# Altium schematic symbol library FT4232H-56Q.SchLib: 1 symbol
Pins are listed as number, name and electrical type; pins without a type are passive.

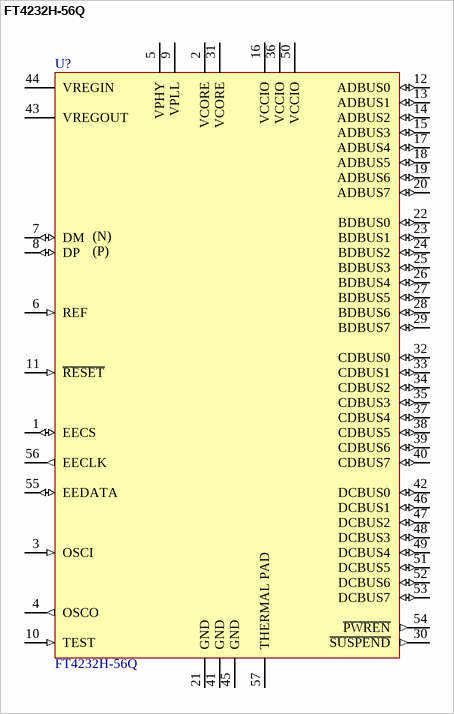
[diagram p0: symbol FT4232H-56Q]

## FT4232H-56Q
designator U?
pins: 1 EECS (io), 2 VCORE (power), 3 OSCI (in), 4 OSCO (out), 5 VPHY (power), 6 REF (in), 7 DM (io), 8 DP (io), 9 VPLL (power), 10 TEST (in), 11 ~{RESET} (in), 12 ADBUS0 (io), 13 ADBUS1 (io), 14 ADBUS2 (io), 15 ADBUS3 (io), 16 VCCIO (power), 17 ADBUS4 (io), 18 ADBUS5 (io), 19 ADBUS6 (io), 20 ADBUS7 (io), 21 GND (power), 22 BDBUS0 (io), 23 BDBUS1 (io), 24 BDBUS2 (io), 25 BDBUS3 (io), 26 BDBUS4 (io), 27 BDBUS5 (io), 28 BDBUS6 (io), 29 BDBUS7 (io), 30 ~{SUSPEND} (out), 31 VCORE (power), 32 CDBUS0 (io), 33 CDBUS1 (io), 34 CDBUS2 (io), 35 CDBUS3 (io), 36 VCCIO (power), 37 CDBUS4 (io), 38 CDBUS5 (io), 39 CDBUS6 (io), 40 CDBUS7 (io), 41 GND (power), 42 DCBUS0 (io), 43 VREGOUT (power), 44 VREGIN (power), 45 GND (power), 46 DCBUS1 (io), 47 DCBUS2 (io), 48 DCBUS3 (io), 49 DCBUS4 (io), 50 VCCIO (power), 51 DCBUS5 (io), 52 DCBUS6 (io), 53 DCBUS7 (io), 54 ~{PWREN} (out), 55 EEDATA (io), 56 EECLK (out), 57 THERMAL PAD (power)
text: (N); (P)